# Altium footprint library Passive components.PcbLib: 29 footprints (part 2 of 2)
Each footprint in its own frame and in the unit in brackets; x right, y up, seen from the top. Pads: shape width x height; smd on the part's side, far side on the other; paste and mask are expansions set on the pad; w line width, h text height; cw(c..) or ccw(c..) is an arc to the next point about the centre after c.
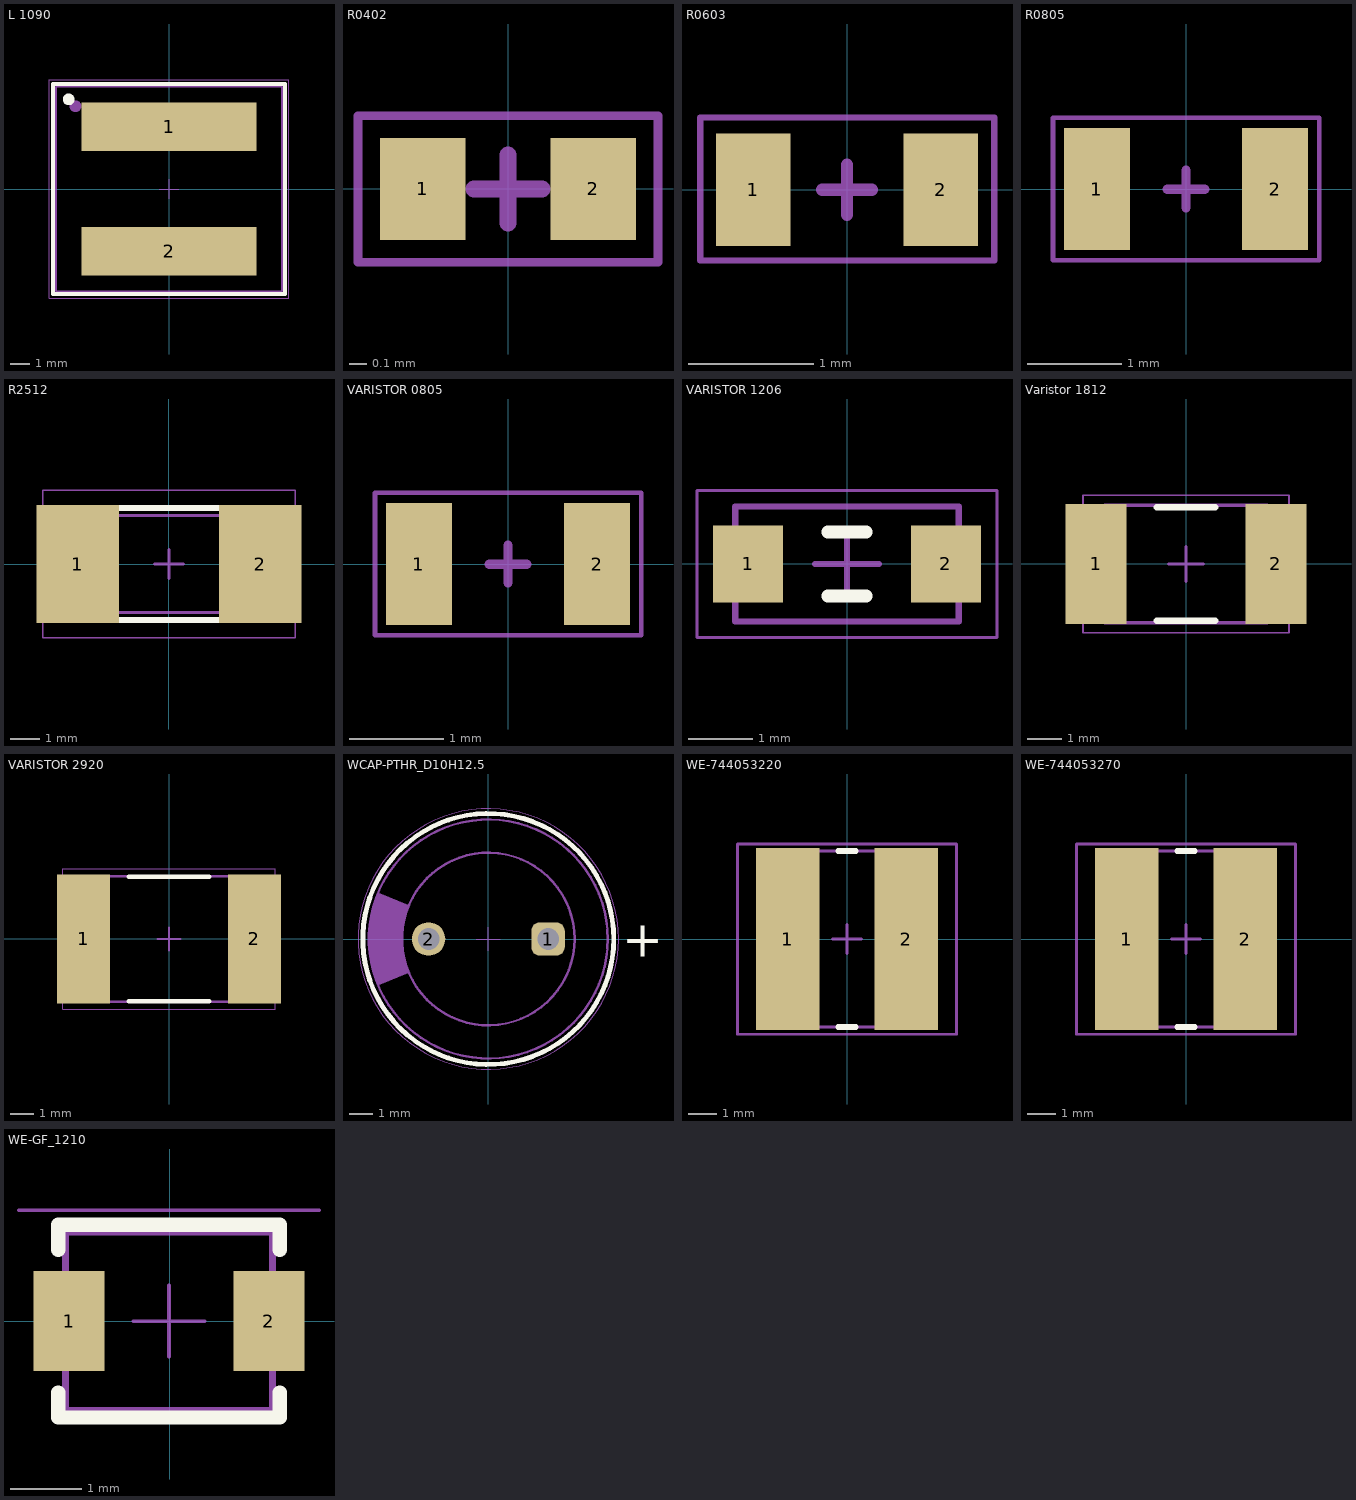
[diagram p1: the footprints below, top view; thin cyan lines are the x and y axes]

## L 1090 [mm] "SMT Power Inductor, 2-Leads, body 11.6x10.5mm"
height 8.8
pads (2):
  rect 9x2.5 smd: 1(0,3.2) 2(0,-3.2)
Top Overlay:
  circle w0.3: c-5.15,4.6 r0.15
  lines w0.2: -5.95,-5.4 5.95,-5.4 5.95,5.4 -5.95,5.4 -5.95,-5.4
Mechanical 13:
  circle w0.3: c-4.8,4.25 r0.15
  lines w0.1: -5.8,-5.25 5.8,-5.25 5.8,5.25 -5.8,5.25 -5.8,-5.25
Mechanical 15:
  lines w0.05: -0.5,0 0.5,0 ; 0,-0.5 0,0.5 ; -6.15,-5.6 6.15,-5.6 6.15,5.6 -6.15,5.6 -6.15,-5.6
3D body "74439369xxx.stp": height 8.8, standoff 0, extent -5.8,-5.25 5.8,5.25

## R0402 [mm]
pads (2):
  rect 0.5x0.6 smd: 1(-0.5,0) 2(0.5,0)
Courtyard Top:
  lines w0.05: -0.88,-0.43 0.88,-0.43 0.88,0.429 -0.88,0.429 -0.88,-0.43
  lines w0.1: -0.2,0 0.2,0 ; 0,-0.2 0,0.2
3D body "User Library-R_0402.STEP": height 0.35, standoff 0, extent -0.5,-0.25 0.5,0.25

## R0603 [mm]
pads (2):
  rect 0.6x0.9 smd: 1(-0.75,0) 2(0.75,0)
Courtyard Top:
  lines w0.05: -1.174,-0.566 1.179,-0.566 1.179,0.58 -1.174,0.58 -1.174,-0.566
  lines w0.1: -0.2,0 0.2,0 ; 0,-0.2 0,0.2
3D body "User Library-R_0603.STEP": height 0.5, standoff 0, extent -0.8,-0.45 0.8,0.45

## R0805 [mm]
pads (2):
  rect 0.7x1.3 smd: 1(-0.95,0) 2(0.95,0)
Courtyard Top:
  lines w0.05: -1.418,-0.757 -1.418,0.76 1.42,0.76 1.42,-0.757 -1.418,-0.757
  lines w0.1: -0.2,0 0.2,0 ; 0,-0.2 0,0.2
3D body "User Library-R_0805.STEP": height 0.5, standoff 0, extent -1,-0.625 1,0.625

## R2512 [mm] "R2512"
height 0.7
pads (2):
  rect 2.8x4 smd: 1(-3.1,0) 2(3.1,0)
Top Overlay:
  lines w0.2: -1.85,-1.9 1.85,-1.9 ; -1.85,1.9 1.85,1.9
Assembly Top:
  lines w0.1: -3.25,-1.65 3.25,-1.65 3.25,1.65 -3.25,1.65 -3.25,-1.65
Courtyard Top:
  lines w0.05: -4.3,-2.5 4.3,-2.5 4.3,2.5 -4.3,2.5 -4.3,-2.5
  lines w0.1: -0.5,0 0.5,0 ; 0,-0.5 0,0.5
3D body "R 2512.step": height 0.7, standoff 0, extent -3.25,-1.65 3.25,1.65

## VARISTOR 0805 [mm]
pads (2):
  rect 0.7x1.3 smd: 1(-0.95,0) 2(0.95,0)
Courtyard Top:
  lines w0.05: -1.418,-0.757 -1.418,0.76 1.42,0.76 1.42,-0.757 -1.418,-0.757
  lines w0.1: -0.2,0 0.2,0 ; 0,-0.2 0,0.2
3D body "User Library-R_0805.STEP": height 0.5, standoff 0, extent -1,-0.625 1,0.625

## VARISTOR 1206 [mm] "Chip Resistor, 2-Leads, Body 3.20x1.60mm, IPC Medium Density"
height 1.7
pads (2):
  rect 1.1x1.2 smd: 1(-1.55,0) 2(1.55,0)
Top Overlay:
  lines w0.2: -0.3,-0.5 0.3,-0.5 ; -0.3,0.5 0.3,0.5
Assembly Top:
  lines w0.1: -1.75,-0.9 1.75,-0.9 1.75,0.9 -1.75,0.9 -1.75,-0.9
Courtyard Top:
  lines w0.05: -2.35,-1.15 2.35,-1.15 2.35,1.15 -2.35,1.15 -2.35,-1.15
  lines w0.1: -0.5,0 0.5,0 ; 0,-0.5 0,0.5
3D body "VARISTOR 1206.step": height 1.7, standoff 0, extent -1.75,-0.9 1.75,0.9

## Varistor 1812 [mm] "Varistor 1812"
height 1.3
pads (2):
  rect 1.78x3.5 smd: 1(-2.615,0) 2(2.615,0)
Top Overlay:
  lines w0.2: -0.85,-1.65 0.85,-1.65 ; -0.85,1.65 0.85,1.65
Assembly Top:
  lines w0.1: -2.365,-1.705 -2.365,1.705 2.365,1.705 2.365,-1.705 -2.365,-1.705
Courtyard Top:
  lines w0.05: -3,-2 -3,2 3,2 3,-2 -3,-2
  lines w0.1: -0.5,0 0.5,0 ; 0,-0.5 0,0.5
3D body "Varistor 1812.step": height 1.3, standoff 0, extent -2.365,-1.705 2.365,1.705

## VARISTOR 2920 [mm] "Chip Resistor, 2-Leads, Body 7.36x5.12mm, IPC Medium Density"
height 1.7
pads (2):
  rect 2.3x5.6 smd: 1(-3.7,0) 2(3.7,0)
Top Overlay:
  lines w0.2: -1.75,-2.7 1.75,-2.7 ; -1.75,2.7 1.75,2.7
Assembly Top:
  lines w0.1: -3.99,-2.72 -3.99,2.72 3.99,2.72 3.99,-2.72 -3.99,-2.72
Courtyard Top:
  lines w0.05: -4.6,-3.05 -4.6,3.05 4.6,3.05 4.6,-3.05 -4.6,-3.05
  lines w0.1: -0.5,0 0.5,0 ; 0,-0.5 0,0.5
3D body "RESC7451X17N.step": height 1.7, standoff 0, extent -3.99,-2.72 3.99,2.72

## WCAP-PTHR_D10H12.5 [mm] "Aluminium Polymer Radial THD Capacitors, 10x12.5mm"
height 12.5
pads (2):
  rrect50% 1.4x1.4 hole 0.9: 1(2.5,0)
  round 1.4 hole 0.9: 2(-2.5,0)
Top Overlay:
  circle w0.2: c0,0 r5.25
  text "+" at 5.6,-0.75 h1.5
Mechanical 11:
  circle w0.1: c0,0 r3.61
  circle w0.1: c0,0 r5
  region: -4.607,-1.944 -3.323,-1.41 -3.324,-1.409 -3.39,-1.24 -3.497,-0.895 -3.569,-0.541 -3.605,-0.181 -3.605,0.181 -3.569,0.541 -3.497,0.895 -3.39,1.24 -3.324,1.409 -3.323,1.41 -4.607,1.944 -4.704,1.714 -4.851,1.237 -4.95,0.747 -5,0.25 -5,-0.25 -4.95,-0.747 -4.851,-1.237 -4.704,-1.714
  text ".Designator" at -2.5,-0.75 h1.5
Mechanical 15:
  circle w0.05: c0,0 r5.45
  lines w0.05: -0.5,0 0.5,0 ; 0,-0.5 0,0.5
3D body "10x12.5x5x0.6.stp": height 12.81, standoff -19.91, extent -4.99,-5 4.959,4.973

## WE-744053220 [mm] "SMD Inductor, 2-Leads, Body 5.8 x 5.8 mm"
height 3
pads (2):
  rect 2.2x6.3 smd: 1(-2.05,0) 2(2.05,0)
Top Overlay:
  lines w0.2: -0.3,-3.05 0.3,-3.05 ; -0.3,3.05 0.3,3.05
Mechanical 13:
  lines w0.1: -3.05,-3.05 3.05,-3.05 3.05,3.05 -3.05,3.05 -3.05,-3.05
Mechanical 15:
  lines w0.1: -0.5,0 0.5,0 ; 0,-0.5 0,0.5 ; -3.8,-3.3 3.8,-3.3 3.8,3.3 -3.8,3.3 -3.8,-3.3
3D body "744053680.stp": height 2.79, standoff -0.01, extent -2.9,-2.9 2.9,2.9

## WE-744053270 [mm] "SMD Inductor, 2-Leads, Body 5.8 x 5.8 mm"
height 3
pads (2):
  rect 2.2x6.3 smd: 1(-2.05,0) 2(2.05,0)
Top Overlay:
  lines w0.2: -0.3,-3.05 0.3,-3.05 ; -0.3,3.05 0.3,3.05
Mechanical 13:
  lines w0.1: -3.05,-3.05 3.05,-3.05 3.05,3.05 -3.05,3.05 -3.05,-3.05
Mechanical 15:
  lines w0.1: -0.5,0 0.5,0 ; 0,-0.5 0,0.5 ; -3.8,-3.3 3.8,-3.3 3.8,3.3 -3.8,3.3 -3.8,-3.3
3D body "744053680.stp": height 2.79, standoff -0.01, extent -2.9,-2.9 2.9,2.9

## WE-GF_1210 [mm]
pads (2):
  rect 1x1.4 smd: 1(-1.41,0) 2(1.39,0)
Top Overlay:
  lines w0.2: -1.56,-1 -1.56,-1.35 1.54,-1.35 1.54,-1 ; -1.56,1 -1.56,1.35 1.54,1.35 1.54,1
Mechanical 13:
  lines w0.1: -1.46,-1.25 1.44,-1.25 1.44,1.25 -1.46,1.25 -1.46,-1.25
Mechanical 15:
  lines w0.05: -2.11,1.55 2.09,1.55 ; -0.51,0 0.49,0 ; -0.01,-0.5 -0.01,0.5
3D body "744764xxx_1210.stp": height 2.21, standoff 0.01, extent -1.61,-1.25 1.59,1.25